# EAGLE library part ESP8266-01 (library captain-slow)
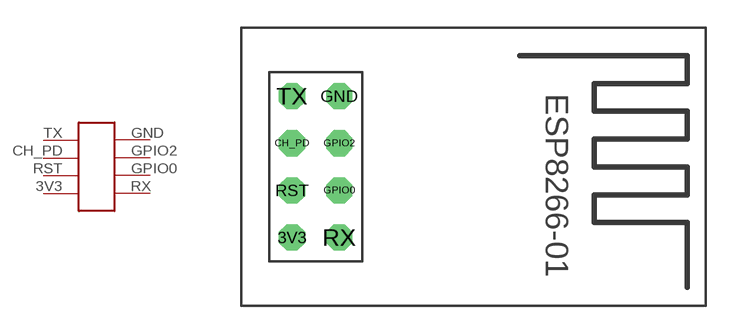
[diagram p6: symbol with the pads of ESP8266-01; footprint ESP8266-01]

Designator prefix -

## ESP8266-01  [ESP8266-01]
3V3  3V3
CH_PD  CH_PD
GND  GND
GPIO0  GPIO0
GPIO2  GPIO2
RST  RST
RX  RX
TX  TX

## Footprint ESP8266-01 (pad centres in mm)
drill 0.9 octagon: 3V3 -1.27,-3.81; CH_PD -1.27,1.27; GND 1.27,3.81; GPIO0 1.27,-1.27; GPIO2 1.27,1.27; RST -1.27,-1.27; RX 1.27,-3.81; TX -1.27,3.81